# Altium schematic symbol library Digital_Converters_Isolators_GOST.SchLib: 1 symbol
Pins are listed as number, name and electrical type; pins without a type are passive.

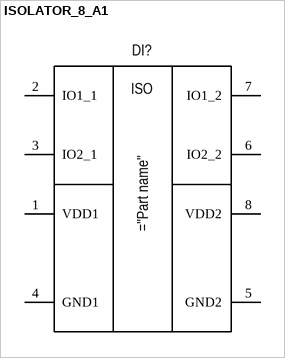
[diagram p0: symbol ISOLATOR_8_A1]

## ISOLATOR_8_A1
designator DI?
pins: 1 VDD1, 2 IO1_1, 3 IO2_1, 4 GND1, 5 GND2, 6 IO2_2, 7 IO1_2, 8 VDD2
text: ISO